# EAGLE library part VIA_6 (library myFab)
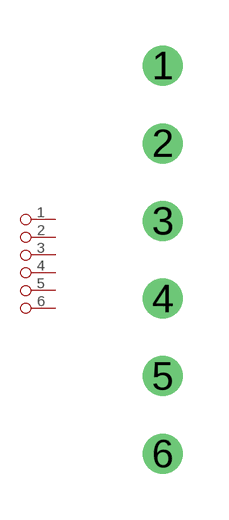
[diagram p32: symbol with the pads of VIA_6_CIRCULAR; footprint VIA_6_CIRCULAR]

Designator prefix -

## VIA_6CIRCULAR  [VIA_6_CIRCULAR]
1  1
2  2
3  3
4  4
5  5
6  6

## Footprint VIA_6_CIRCULAR (pad centres in mm)
drill 0.8: 1 0,0; 2 0,-2.54; 3 0,-5.08; 4 0,-7.62; 5 0,-10.16; 6 0,-12.7